# Altium footprint library SS2FH10-M3&slash_H.PcbLib: 3 footprints
Each footprint in its own frame and in the unit in brackets; x right, y up, seen from the top. Pads: shape width x height; smd on the part's side, far side on the other; paste and mask are expansions set on the pad; w line width, h text height; cw(c..) or ccw(c..) is an arc to the next point about the centre after c.
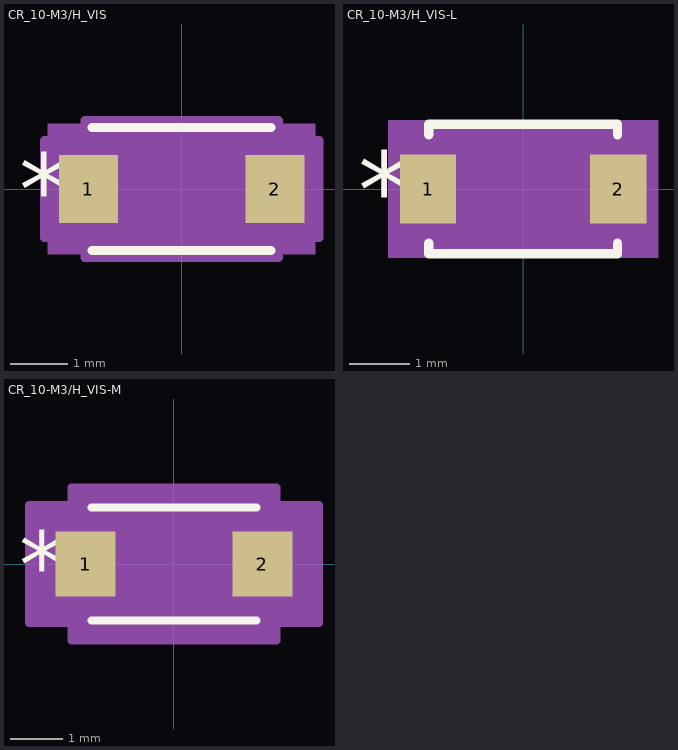
[diagram p0: the footprints below, top view; thin cyan lines are the x and y axes]

## CR_10-M3/H_VIS [mil]
pads (2):
  rect 41x47 smd paste+0 mask+0: 1(-64.5,0) 2(64.5,0)
Top Overlay:
  lines w6: -62,-42.5 62,-42.5 ; -62,42.5 62,42.5
  text "*" at -112.5,-25 h50
Mechanical 5:
  region: 92.5,-45 -92.5,-45 -92.5,45 92.5,45
Mechanical 13:
  lines w1: -57,-18.75 -38.25,-37.5 ; -57,18.75 -38.25,37.5 ; -77,-23.5 -77,23.5 -57,23.5 -57,-23.5 -77,-23.5 ; -57,-37.5 57,-37.5 57,37.5 -57,37.5 -57,-37.5 ; 57,-23.5 57,23.5 77,23.5 77,-23.5 57,-23.5
  text "*" at -59.5,-25 h50
Mechanical 15:
  region: -67,-33.5 -95,-33.5 -95,33.5 -67,33.5 -67,47.5 67,47.5 67,33.5 95,33.5 95,-33.5 67,-33.5 67,-47.5 -67,-47.5
  lines w6: -95,-33.5 -95,33.5 -67,33.5 -67,47.5 67,47.5 67,33.5 95,33.5 95,-33.5 67,-33.5 67,-47.5 -67,-47.5 -67,-33.5 -95,-33.5
3D body: height 10, standoff 0, extent 0,0 10,10

## CR_10-M3/H_VIS-L [mil]
pads (2):
  rect 37x45 smd paste+0 mask+0: 1(-62.5,0) 2(62.5,0)
Top Overlay:
  lines w6: -62,-35.6 -62,-42.5 62,-42.5 62,-35.6 ; -62,35.6 -62,42.5 62,42.5 62,35.6
  text "*" at -108.5,-25 h50
Mechanical 5:
  region: 88.5,-45 -88.5,-45 -88.5,45 88.5,45
Mechanical 13:
  lines w1: -57,-18.75 -38.25,-37.5 ; -57,18.75 -38.25,37.5 ; -77,-23.5 -77,23.5 -57,23.5 -57,-23.5 -77,-23.5 ; -57,-37.5 57,-37.5 57,37.5 -57,37.5 -57,-37.5 ; 57,-23.5 57,23.5 77,23.5 77,-23.5 57,-23.5
  text "*" at -59.5,-25 h50
Mechanical 15:
  region: -61,-26.5 -85,-26.5 -85,26.5 -61,26.5 -61,41.5 61,41.5 61,26.5 85,26.5 85,-26.5 61,-26.5 61,-41.5 -61,-41.5
  lines w6: -85,-26.5 -85,26.5 -61,26.5 -61,41.5 61,41.5 61,26.5 85,26.5 85,-26.5 61,-26.5 61,-41.5 -61,-41.5 -61,-26.5 -85,-26.5
3D body: height 10, standoff 0, extent 0,0 10,10

## CR_10-M3/H_VIS-M [mil]
pads (2):
  rect 45x49 smd paste+0 mask+0: 1(-66.5,0) 2(66.5,0)
Top Overlay:
  lines w6: -62,-42.5 62,-42.5 ; -62,42.5 62,42.5
  text "*" at -116.5,-25 h50
Mechanical 5:
  region: 96.5,-45 -96.5,-45 -96.5,45 96.5,45
Mechanical 13:
  lines w1: -57,-18.75 -38.25,-37.5 ; -57,18.75 -38.25,37.5 ; -77,-23.5 -77,23.5 -57,23.5 -57,-23.5 -77,-23.5 ; -57,-37.5 57,-37.5 57,37.5 -57,37.5 -57,-37.5 ; 57,-23.5 57,23.5 77,23.5 77,-23.5 57,-23.5
  text "*" at -59.5,-25 h50
Mechanical 15:
  region: -77,-44.5 -109,-44.5 -109,44.5 -77,44.5 -77,57.5 77,57.5 77,44.5 109,44.5 109,-44.5 77,-44.5 77,-57.5 -77,-57.5
  lines w6: -109,-44.5 -109,44.5 -77,44.5 -77,57.5 77,57.5 77,44.5 109,44.5 109,-44.5 77,-44.5 77,-57.5 -77,-57.5 -77,-44.5 -109,-44.5
3D body: height 10, standoff 0, extent 0,0 10,10